# EAGLE library part LM2622 (library BMO)
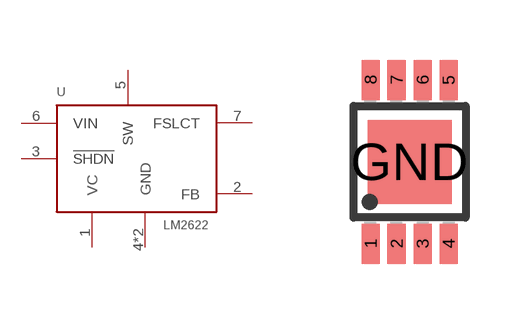
[diagram p3: symbol with the pads of MSOP8; footprint MSOP8]

Designator prefix U

## LM2622  [MSOP8]
1  VC
2  FB
3  !SHDN
4  GND
5  SW
6  VIN
7  FSLCT
GND  GND

## Footprint MSOP8 (pad centres in mm)
Micro Small Outline Package Grid .65mm
smd 0.45 x 1: 1 -0.975,-2.05; 2 -0.325,-2.05; 3 0.325,-2.05; 4 0.975,-2.05; 5 0.975,2.05; 6 0.325,2.05; 7 -0.325,2.05; 8 -0.975,2.05
smd 2.1 x 2.1: GND 0,0